# EAGLE library part MCP25050 (library hf-controller)
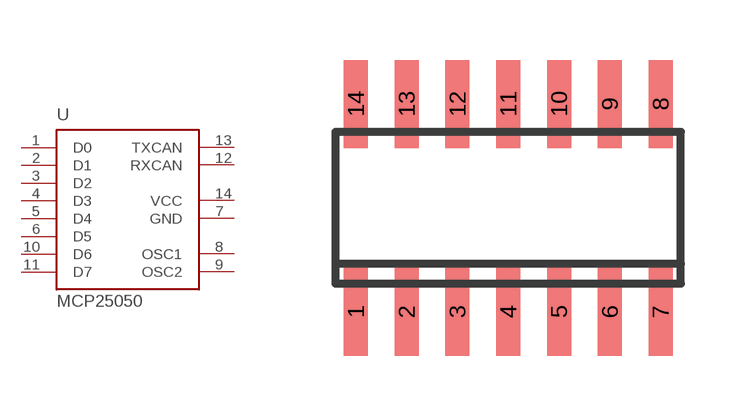
[diagram p1: symbol with the pads of MCP25050; footprint MCP25050]

Designator prefix -

## MCP25050  [MCP25050]
1  D0
2  D1
3  D2
4  D3
5  D4
6  D5
7  GND  pwr
8  OSC1
9  OSC2
10  D6
11  D7
12  RXCAN
13  TXCAN
14  VCC  pwr

## Footprint MCP25050 (pad centres in mm)
smd 0.6 x 2.2: 1 0,-0.06; 2 1.27,-0.06; 3 2.54,-0.06; 4 3.81,-0.06; 5 5.08,-0.06; 6 6.35,-0.06; 7 7.62,-0.06; 8 7.62,5.14; 9 6.35,5.14; 10 5.08,5.14; 11 3.81,5.14; 12 2.54,5.14; 13 1.27,5.14; 14 0,5.14